# Altium schematic symbol library ICs-RFModules.SchLib: 1 symbol
Pins are listed as number, name and electrical type; pins without a type are passive.

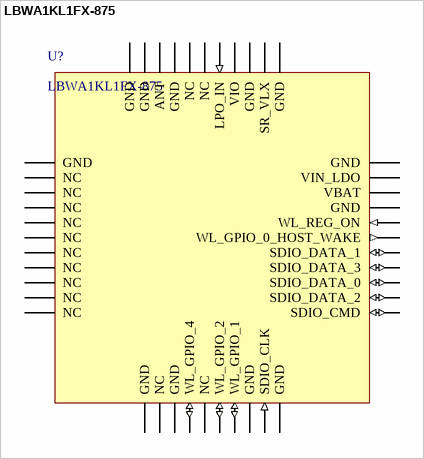
[diagram p0: symbol LBWA1KL1FX-875]

## LBWA1KL1FX-875
designator U?
WI-FI-B/G/N NETWORK CONTROLLER; Manufacturer: Murata; PartNumber: LBWA1KL1FX-875; PackageReference: Module; Mounting Technology: Surface Mount
footprint LGA-42 (LGA, 42-Leads, Body 5.15x6.95mmx1.10mm, Pitch 0.45mm)
pins: 1 GND, 2 NC, 3 NC, 4 NC, 5 NC, 6 NC, 7 NC, 8 NC, 9 NC, 10 NC, 11 NC, 12 GND, 13 NC, 14 GND, 15 WL_GPIO_4 (io), 16 NC, 17 WL_GPIO_2 (io), 18 WL_GPIO_1 (io), 19 GND, 20 SDIO_CLK (in), 21 GND, 22 SDIO_CMD (io), 23 SDIO_DATA_2 (io), 24 SDIO_DATA_0 (io), 25 SDIO_DATA_3 (io), 26 SDIO_DATA_1 (io), 27 WL_GPIO_0_HOST_WAKE (out), 28 WL_REG_ON (in), 29 GND, 30 VBAT, 31 VIN_LDO, 32 GND, 33 GND, 34 SR_VLX, 35 GND, 36 VIO, 37 LPO_IN (in), 38 NC, 39 NC, 40 GND, 41 ANT, 42 GND, 43 GND